# Altium schematic symbol library MP2338GTL-Z.SchLib: 1 symbol
Pins are listed as number, name and electrical type; pins without a type are passive.

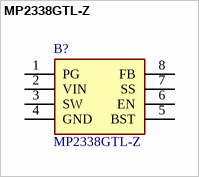
[diagram p0: symbol MP2338GTL-Z]

## MP2338GTL-Z
designator B?
Switching Voltage Regulators High-Efficiency,28V,3A,430kHz Synchronous Buck with PG and ext.SS In SOT583 Package; Manufacturer_Name: Monolithic Power Systems (MPS); Geometry.Height: 0.6mm; Mouser Part Number: 946-MP2338GTL-Z; Mouser Price/Stock: https://www.mouser.co.uk/ProductDetail/Monolithic-Power-Systems-MPS/MP2338GTL-Z?qs=Li%252BoUPsLEnuizxbD7Jo%252B7w%3D%3D; Manufacturer_Part_Number: MP2338GTL-Z; Datasheet Link: https://www.monolithicpower.com/en/documentview/productdocument/index/version/2/document_type/Datasheet/lang/en/sku/MP2338GTL/document_id/9461/
footprint MP2338GTLZ
pins: 1 PG, 2 VIN, 3 SW, 4 GND, 5 BST, 6 EN, 7 SS, 8 FB